# Altium schematic symbol library FUSE.Schlib: 1 symbol
Pins are listed as number, name and electrical type; pins without a type are passive.

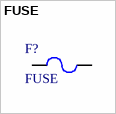
[diagram p0: symbol FUSE]

## FUSE
designator F?
pins: 1, 2